# Altium schematic symbol library Connector-RF.SchLib: 11 symbols
Pins are listed as number, name and electrical type; pins without a type are passive.

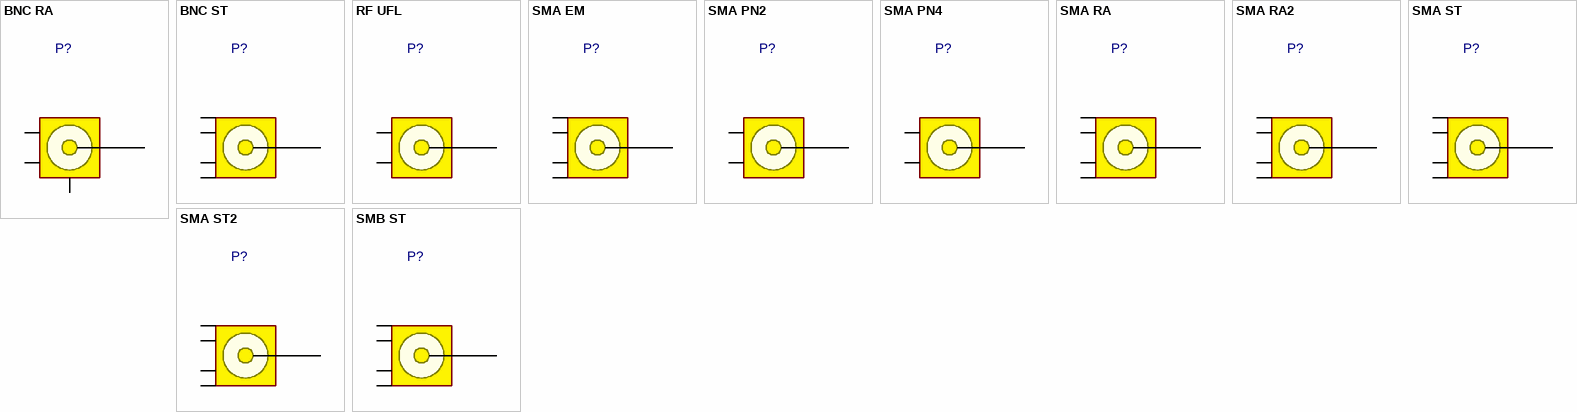
[diagram p0: symbols BNC RA to SMB ST]

## BNC RA
designator P?
CONN, RF, BNC, STRAIGHT; DatasheetVersion: 2022
pins: 1 SIG, 2 GND, MH1, MH2

## BNC ST
designator P?
CONN, RF, BNC, STRAIGHT; DatasheetVersion: 2022
pins: 1 SIG, 2 G1, 3 G2, 4 G3, 5 G4

## RF UFL
designator P?
CONN, RF, U.FL, STRAIGHT, Ultra Miniature Coaxial; DatasheetVersion: 2022
pins: 1 SIG, 2 G1, 3 G2

## SMA EM
designator P?
CONN, RF, SMA, Edge mounting; DatasheetVersion: 2022
pins: 1 SIG, 2 G1, 3 G2, 4 G3, 5 G4

## SMA PN2
designator P?
CONN, RF, SMA, Wall mounting 1pin; DatasheetVersion: 2022
pins: 1 SIG, 2 G1, 3 G2

## SMA PN4
designator P?
CONN, RF, SMA, Wall mounting 1pin; DatasheetVersion: 2022
pins: 1 SIG, 2 G1, 3 G2

## SMA RA
designator P?
CONN, RF, SMA, Right Angle; DatasheetVersion: 2022
pins: 1 SIG, 2 G1, 3 G2, 4 G3, 5 G4

## SMA RA2
designator P?
CONN, RF, SMA, Right Angle; DatasheetVersion: 2022
pins: 1 SIG, 2 G1, 3 G2, 4 G3, 5 G4

## SMA ST
designator P?
CONN, RF, SMA, STRAIGHT; DatasheetVersion: 2022
pins: 1 SIG, 2 G1, 3 G2, 4 G3, 5 G4

## SMA ST2
designator P?
CONN, RF, SMA, STRAIGHT, smt pin with 4 tht pin ground; DatasheetVersion: 2022
pins: 1 SIG, 2 G1, 3 G2, 4 G3, 5 G4

## SMB ST
designator P?
CONN, RF, SMB, STRAIGHT; DatasheetVersion: 2022
pins: 1 SIG, 2 G1, 3 G2, 4 G3, 5 G4